# EAGLE library part MICRO-SD (library X893)
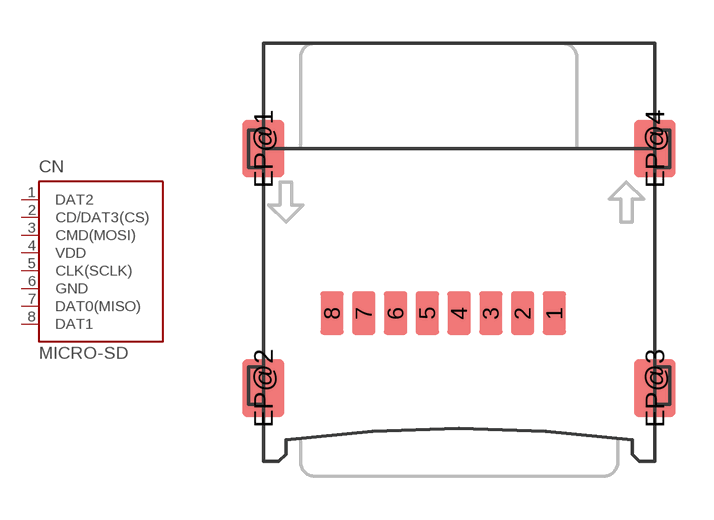
[diagram p197: symbol with the pads of T-FLASH; footprint T-FLASH]

Designator prefix CN

## MICRO-SD-T-FLASH  [T-FLASH]
1  DAT2
2  CD/DAT3(CS)
3  CMD(MOSI)
4  VDD  pwr
5  CLK(SCLK)
6  GND  pwr
7  DAT0(MISO)
8  DAT1

## Footprint T-FLASH (pad centres in mm)
smd 0.8 x 1.5: 1 3.3,-9.35; 2 2.2,-9.35; 3 1.1,-9.35; 4 0,-9.35; 5 -1.1,-9.35; 6 -2.2,-9.35; 7 -3.3,-9.35; 8 -4.4,-9.35
smd 1.45 x 2: EP@1 -6.78,-3.65; EP@2 -6.78,-11.95; EP@3 6.78,-11.95; EP@4 6.78,-3.65